# Altium integrated library TI Amplifiers and Linear Instrumentation Amplifier.IntLib: 274 symbols (part 7 of 10)
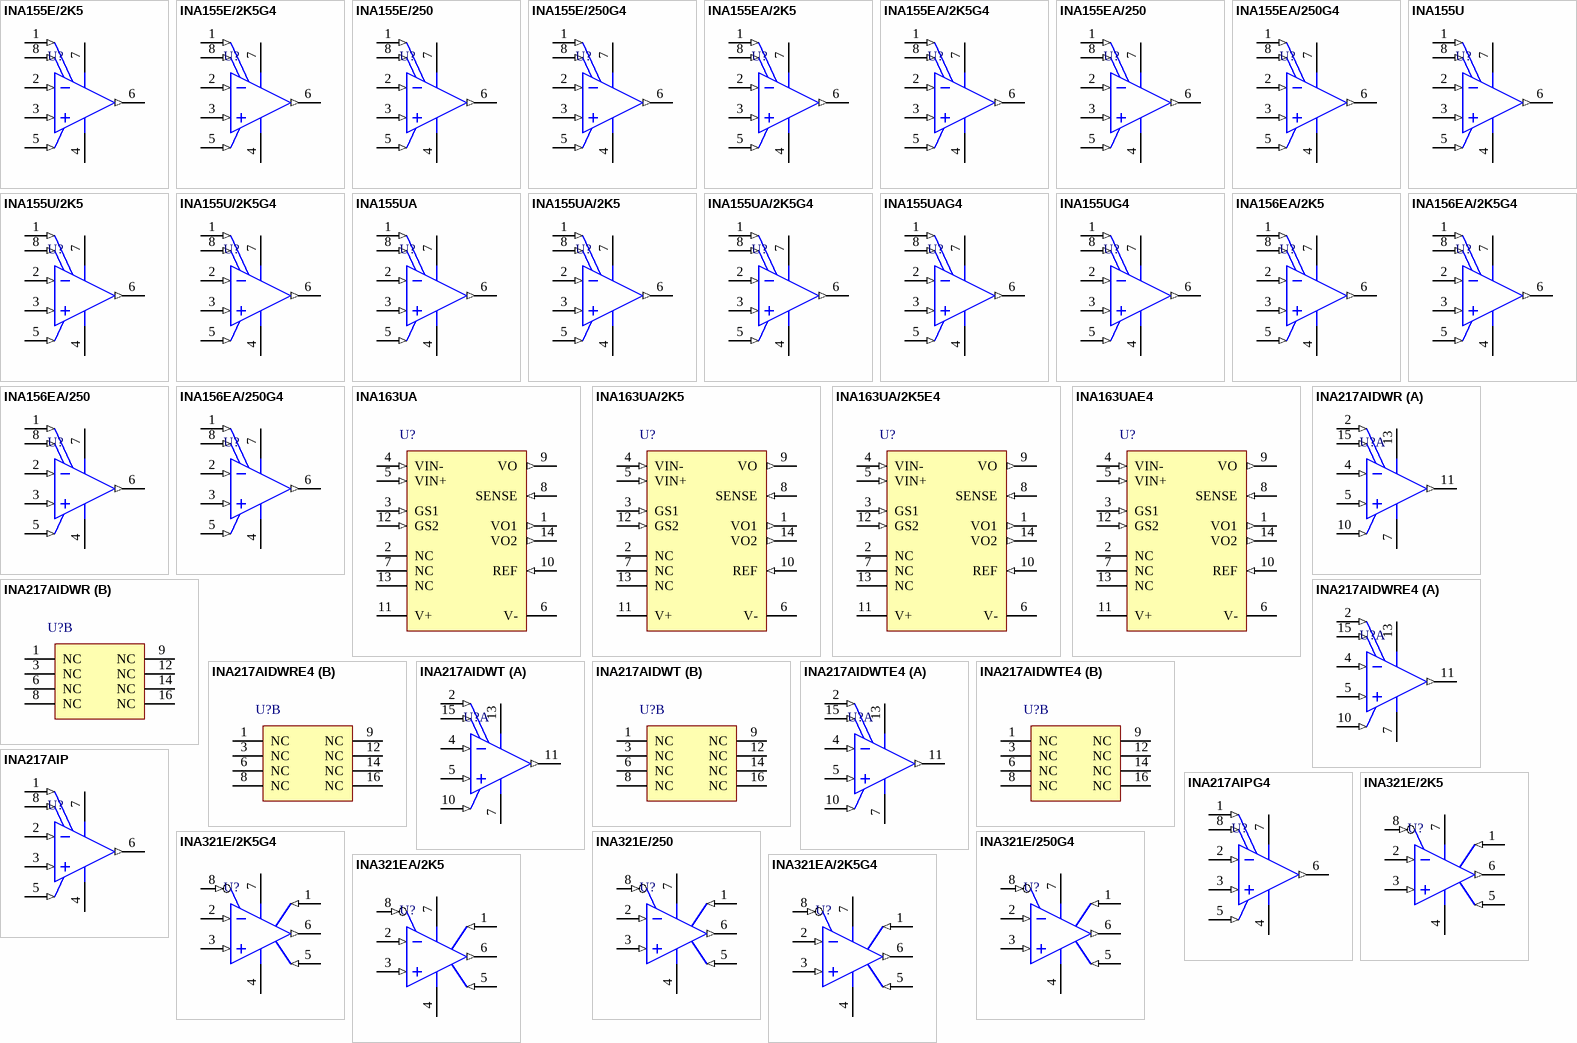
[diagram p14: symbols INA155E/2K5 to INA321EA/2K5G4]

## INA155U
designator U?
Single-Supply, Rail-to-Rail Output, CMOS Instrumentation Amplifier, -60 to 150 degC, 8-pin SOIC (D8), Green (RoHS & no Sb/Br); Manufacturer: Texas Instruments; PartNumber: INA155U; CMRR(Min)(dB): 92; Gain(V/V): 10, 50; Input Bias Current (+/-)(Max)(nA): 0.01; Input Offset (+/-)(Max)(uV): 1000; Noise at 1kHz(Typ)(nV/rt(Hz)): 40; Non-Linearity (+/-)(Max)(%): 0.015; Number of Channels: 1; Quiescent Current (+/-)(Typ)(mA): 1.7; SubFamily: Single Supply; Vs(Max)(V): 5.5; Vs(Min)(V): 2.7; DatasheetVersion: SBOS114; PackageVersion: 4040047-3/M, 06/2011; PackageReference: D8; PackageDescription: 8-Pin Plastic Small Outline, Body 4.9 x 3.9 mm, Pitch 1.27 mm; Supplier 1: Digi-Key; Supplier Part Number 1: INA155U-ND; Supplier 2: Newark; Supplier Part Number 2: 74C9818; Supplier 3: Mouser; Supplier Part Number 3: 595-INA155U; Eco-Plan: Green (RoHS & no Sb/Br); Mounting Technology: Surface Mount; Code_JEDEC: MS-012; ComponentLink1Description: Manufacturer URL; ComponentLink1URL: http://www.ti.com/; ComponentLink2Description: Datasheet; ComponentLink2URL: http://www.ti.com/general/docs/lit/getliterature.tsp?genericPartNumber=INA155&fileType=pdf; ComponentLink3Description: Package Specification; ComponentLink3URL: http://www.ti.com/litv/pdf/msoi002j
footprint TI-D8_N (SOIC, 8-Leads, Body 5x4mm, Pitch 1.27mm, IPC Medium Density)
footprint TI-D8_L (SOIC, 8-Leads, Body 5x4mm, Pitch 1.27mm, IPC High Density)
footprint TI-D8_M (SOIC, 8-Leads, Body 5x4mm, Pitch 1.27mm, IPC Low Density)
pins: 1 RG (in), 2 VIN- (in), 3 VIN+ (in), 4 V- (power), 5 REF (in), 6 VOUT (out), 7 V+ (power), 8 RG (in)

## INA155U/2K5
designator U?
Single-Supply, Rail-to-Rail Output, CMOS Instrumentation Amplifier, -60 to 150 degC, 8-pin SOIC (D8), Green (RoHS & no Sb/Br); Manufacturer: Texas Instruments; PartNumber: INA155U/2K5; CMRR(Min)(dB): 92; Gain(V/V): 10, 50; Input Bias Current (+/-)(Max)(nA): 0.01; Input Offset (+/-)(Max)(uV): 1000; Noise at 1kHz(Typ)(nV/rt(Hz)): 40; Non-Linearity (+/-)(Max)(%): 0.015; Number of Channels: 1; Quiescent Current (+/-)(Typ)(mA): 1.7; SubFamily: Single Supply; Vs(Max)(V): 5.5; Vs(Min)(V): 2.7; DatasheetVersion: SBOS114; PackageVersion: 4040047-3/M, 06/2011; PackageReference: D8; PackageDescription: 8-Pin Plastic Small Outline, Body 4.9 x 3.9 mm, Pitch 1.27 mm; Supplier 1: Digi-Key; Supplier Part Number 1: INA155U/2K5-ND; Supplier 2: Mouser; Supplier Part Number 2: 595-INA155U/2K5; Eco-Plan: Green (RoHS & no Sb/Br); Mounting Technology: Surface Mount; Code_JEDEC: MS-012; ComponentLink1Description: Manufacturer URL; ComponentLink1URL: http://www.ti.com/; ComponentLink2Description: Datasheet; ComponentLink2URL: http://www.ti.com/general/docs/lit/getliterature.tsp?genericPartNumber=INA155&fileType=pdf; ComponentLink3Description: Package Specification; ComponentLink3URL: http://www.ti.com/litv/pdf/msoi002j
footprint TI-D8_N (SOIC, 8-Leads, Body 5x4mm, Pitch 1.27mm, IPC Medium Density)
footprint TI-D8_L (SOIC, 8-Leads, Body 5x4mm, Pitch 1.27mm, IPC High Density)
footprint TI-D8_M (SOIC, 8-Leads, Body 5x4mm, Pitch 1.27mm, IPC Low Density)
pins: 1 RG (in), 2 VIN- (in), 3 VIN+ (in), 4 V- (power), 5 REF (in), 6 VOUT (out), 7 V+ (power), 8 RG (in)

## INA155U/2K5G4
designator U?
Single-Supply, Rail-to-Rail Output, CMOS Instrumentation Amplifier, -60 to 150 degC, 8-pin SOIC (D8), Green (RoHS & no Sb/Br); Manufacturer: Texas Instruments; PartNumber: INA155U/2K5G4; CMRR(Min)(dB): 92; Gain(V/V): 10, 50; Input Bias Current (+/-)(Max)(nA): 0.01; Input Offset (+/-)(Max)(uV): 1000; Noise at 1kHz(Typ)(nV/rt(Hz)): 40; Non-Linearity (+/-)(Max)(%): 0.015; Number of Channels: 1; Quiescent Current (+/-)(Typ)(mA): 1.7; SubFamily: Single Supply; Vs(Max)(V): 5.5; Vs(Min)(V): 2.7; DatasheetVersion: SBOS114; PackageVersion: 4040047-3/M, 06/2011; PackageReference: D8; PackageDescription: 8-Pin Plastic Small Outline, Body 4.9 x 3.9 mm, Pitch 1.27 mm; Supplier 1: Digi-Key; Supplier Part Number 1: INA155U/2K5G4-ND; Supplier 2: Mouser; Supplier Part Number 2: 595-INA155U/2K5G4; Eco-Plan: Green (RoHS & no Sb/Br); Mounting Technology: Surface Mount; Code_JEDEC: MS-012; ComponentLink1Description: Manufacturer URL; ComponentLink1URL: http://www.ti.com/; ComponentLink2Description: Datasheet; ComponentLink2URL: http://www.ti.com/general/docs/lit/getliterature.tsp?genericPartNumber=INA155&fileType=pdf; ComponentLink3Description: Package Specification; ComponentLink3URL: http://www.ti.com/litv/pdf/msoi002j
footprint TI-D8_N (SOIC, 8-Leads, Body 5x4mm, Pitch 1.27mm, IPC Medium Density)
footprint TI-D8_L (SOIC, 8-Leads, Body 5x4mm, Pitch 1.27mm, IPC High Density)
footprint TI-D8_M (SOIC, 8-Leads, Body 5x4mm, Pitch 1.27mm, IPC Low Density)
pins: 1 RG (in), 2 VIN- (in), 3 VIN+ (in), 4 V- (power), 5 REF (in), 6 VOUT (out), 7 V+ (power), 8 RG (in)

## INA155UA
designator U?
Single-Supply, Rail-to-Rail Output, CMOS Instrumentation Amplifier, -60 to 150 degC, 8-pin SOIC (D8), Green (RoHS & no Sb/Br); Manufacturer: Texas Instruments; PartNumber: INA155UA; CMRR(Min)(dB): 80; Gain(V/V): 10, 50; Input Bias Current (+/-)(Max)(nA): 0.01; Input Offset (+/-)(Max)(uV): 1000; Noise at 1kHz(Typ)(nV/rt(Hz)): 40; Non-Linearity (+/-)(Max)(%): 0.015; Number of Channels: 1; Quiescent Current (+/-)(Typ)(mA): 1.7; SubFamily: Single Supply; Vs(Max)(V): 5.5; Vs(Min)(V): 2.7; DatasheetVersion: SBOS114; PackageVersion: 4040047-3/M, 06/2011; PackageReference: D8; PackageDescription: 8-Pin Plastic Small Outline, Body 4.9 x 3.9 mm, Pitch 1.27 mm; Supplier 1: Digi-Key; Supplier Part Number 1: INA155UA-ND; Supplier 2: Farnell; Supplier Part Number 2: 1106188; Supplier 3: Newark; Supplier Part Number 3: 35C0500; Supplier 4: Mouser; Supplier Part Number 4: 595-INA155UA; Eco-Plan: Green (RoHS & no Sb/Br); Mounting Technology: Surface Mount; Code_JEDEC: MS-012; ComponentLink1Description: Manufacturer URL; ComponentLink1URL: http://www.ti.com/; ComponentLink2Description: Datasheet; ComponentLink2URL: http://www.ti.com/general/docs/lit/getliterature.tsp?genericPartNumber=INA155&fileType=pdf; ComponentLink3Description: Package Specification; ComponentLink3URL: http://www.ti.com/litv/pdf/msoi002j
footprint TI-D8_N (SOIC, 8-Leads, Body 5x4mm, Pitch 1.27mm, IPC Medium Density)
footprint TI-D8_L (SOIC, 8-Leads, Body 5x4mm, Pitch 1.27mm, IPC High Density)
footprint TI-D8_M (SOIC, 8-Leads, Body 5x4mm, Pitch 1.27mm, IPC Low Density)
pins: 1 RG (in), 2 VIN- (in), 3 VIN+ (in), 4 V- (power), 5 REF (in), 6 VOUT (out), 7 V+ (power), 8 RG (in)

## INA155UA/2K5
designator U?
Single-Supply, Rail-to-Rail Output, CMOS Instrumentation Amplifier, -60 to 150 degC, 8-pin SOIC (D8), Green (RoHS & no Sb/Br); Manufacturer: Texas Instruments; PartNumber: INA155UA/2K5; CMRR(Min)(dB): 80; Gain(V/V): 10, 50; Input Bias Current (+/-)(Max)(nA): 0.01; Input Offset (+/-)(Max)(uV): 1000; Noise at 1kHz(Typ)(nV/rt(Hz)): 40; Non-Linearity (+/-)(Max)(%): 0.015; Number of Channels: 1; Quiescent Current (+/-)(Typ)(mA): 1.7; SubFamily: Single Supply; Vs(Max)(V): 5.5; Vs(Min)(V): 2.7; DatasheetVersion: SBOS114; PackageVersion: 4040047-3/M, 06/2011; PackageReference: D8; PackageDescription: 8-Pin Plastic Small Outline, Body 4.9 x 3.9 mm, Pitch 1.27 mm; Supplier 1: Digi-Key; Supplier Part Number 1: INA155UA/2K5-ND; Supplier 2: Newark; Supplier Part Number 2: 74C9820; Supplier 3: Mouser; Supplier Part Number 3: 595-INA155UA/2K5; Eco-Plan: Green (RoHS & no Sb/Br); Mounting Technology: Surface Mount; Code_JEDEC: MS-012; ComponentLink1Description: Manufacturer URL; ComponentLink1URL: http://www.ti.com/; ComponentLink2Description: Datasheet; ComponentLink2URL: http://www.ti.com/general/docs/lit/getliterature.tsp?genericPartNumber=INA155&fileType=pdf; ComponentLink3Description: Package Specification; ComponentLink3URL: http://www.ti.com/litv/pdf/msoi002j
footprint TI-D8_N (SOIC, 8-Leads, Body 5x4mm, Pitch 1.27mm, IPC Medium Density)
footprint TI-D8_L (SOIC, 8-Leads, Body 5x4mm, Pitch 1.27mm, IPC High Density)
footprint TI-D8_M (SOIC, 8-Leads, Body 5x4mm, Pitch 1.27mm, IPC Low Density)
pins: 1 RG (in), 2 VIN- (in), 3 VIN+ (in), 4 V- (power), 5 REF (in), 6 VOUT (out), 7 V+ (power), 8 RG (in)

## INA155UA/2K5G4
designator U?
Single-Supply, Rail-to-Rail Output, CMOS Instrumentation Amplifier, -60 to 150 degC, 8-pin SOIC (D8), Green (RoHS & no Sb/Br); Manufacturer: Texas Instruments; PartNumber: INA155UA/2K5G4; CMRR(Min)(dB): 80; Gain(V/V): 10, 50; Input Bias Current (+/-)(Max)(nA): 0.01; Input Offset (+/-)(Max)(uV): 1000; Noise at 1kHz(Typ)(nV/rt(Hz)): 40; Non-Linearity (+/-)(Max)(%): 0.015; Number of Channels: 1; Quiescent Current (+/-)(Typ)(mA): 1.7; SubFamily: Single Supply; Vs(Max)(V): 5.5; Vs(Min)(V): 2.7; DatasheetVersion: SBOS114; PackageVersion: 4040047-3/M, 06/2011; PackageReference: D8; PackageDescription: 8-Pin Plastic Small Outline, Body 4.9 x 3.9 mm, Pitch 1.27 mm; Supplier 1: Digi-Key; Supplier Part Number 1: INA155UA/2K5G4-ND; Supplier 2: Mouser; Supplier Part Number 2: 595-INA155UA/2K5G4; Eco-Plan: Green (RoHS & no Sb/Br); Mounting Technology: Surface Mount; Code_JEDEC: MS-012; ComponentLink1Description: Manufacturer URL; ComponentLink1URL: http://www.ti.com/; ComponentLink2Description: Datasheet; ComponentLink2URL: http://www.ti.com/general/docs/lit/getliterature.tsp?genericPartNumber=INA155&fileType=pdf; ComponentLink3Description: Package Specification; ComponentLink3URL: http://www.ti.com/litv/pdf/msoi002j
footprint TI-D8_N (SOIC, 8-Leads, Body 5x4mm, Pitch 1.27mm, IPC Medium Density)
footprint TI-D8_L (SOIC, 8-Leads, Body 5x4mm, Pitch 1.27mm, IPC High Density)
footprint TI-D8_M (SOIC, 8-Leads, Body 5x4mm, Pitch 1.27mm, IPC Low Density)
pins: 1 RG (in), 2 VIN- (in), 3 VIN+ (in), 4 V- (power), 5 REF (in), 6 VOUT (out), 7 V+ (power), 8 RG (in)

## INA155UAG4
designator U?
Single-Supply, Rail-to-Rail Output, CMOS Instrumentation Amplifier, -60 to 150 degC, 8-pin SOIC (D8), Green (RoHS & no Sb/Br); Manufacturer: Texas Instruments; PartNumber: INA155UAG4; CMRR(Min)(dB): 80; Gain(V/V): 10, 50; Input Bias Current (+/-)(Max)(nA): 0.01; Input Offset (+/-)(Max)(uV): 1000; Noise at 1kHz(Typ)(nV/rt(Hz)): 40; Non-Linearity (+/-)(Max)(%): 0.015; Number of Channels: 1; Quiescent Current (+/-)(Typ)(mA): 1.7; SubFamily: Single Supply; Vs(Max)(V): 5.5; Vs(Min)(V): 2.7; DatasheetVersion: SBOS114; PackageVersion: 4040047-3/M, 06/2011; PackageReference: D8; PackageDescription: 8-Pin Plastic Small Outline, Body 4.9 x 3.9 mm, Pitch 1.27 mm; Supplier 1: Digi-Key; Supplier Part Number 1: INA155UAG4-ND; Supplier 2: Newark; Supplier Part Number 2: 67K8008; Supplier 3: Mouser; Supplier Part Number 3: 595-INA155UAG4; Eco-Plan: Green (RoHS & no Sb/Br); Mounting Technology: Surface Mount; Code_JEDEC: MS-012; ComponentLink1Description: Manufacturer URL; ComponentLink1URL: http://www.ti.com/; ComponentLink2Description: Datasheet; ComponentLink2URL: http://www.ti.com/general/docs/lit/getliterature.tsp?genericPartNumber=INA155&fileType=pdf; ComponentLink3Description: Package Specification; ComponentLink3URL: http://www.ti.com/litv/pdf/msoi002j
footprint TI-D8_N (SOIC, 8-Leads, Body 5x4mm, Pitch 1.27mm, IPC Medium Density)
footprint TI-D8_L (SOIC, 8-Leads, Body 5x4mm, Pitch 1.27mm, IPC High Density)
footprint TI-D8_M (SOIC, 8-Leads, Body 5x4mm, Pitch 1.27mm, IPC Low Density)
pins: 1 RG (in), 2 VIN- (in), 3 VIN+ (in), 4 V- (power), 5 REF (in), 6 VOUT (out), 7 V+ (power), 8 RG (in)

## INA155UG4
designator U?
Single-Supply, Rail-to-Rail Output, CMOS Instrumentation Amplifier, -60 to 150 degC, 8-pin SOIC (D8), Green (RoHS & no Sb/Br); Manufacturer: Texas Instruments; PartNumber: INA155UG4; CMRR(Min)(dB): 92; Gain(V/V): 10, 50; Input Bias Current (+/-)(Max)(nA): 0.01; Input Offset (+/-)(Max)(uV): 1000; Noise at 1kHz(Typ)(nV/rt(Hz)): 40; Non-Linearity (+/-)(Max)(%): 0.015; Number of Channels: 1; Quiescent Current (+/-)(Typ)(mA): 1.7; SubFamily: Single Supply; Vs(Max)(V): 5.5; Vs(Min)(V): 2.7; DatasheetVersion: SBOS114; PackageVersion: 4040047-3/M, 06/2011; PackageReference: D8; PackageDescription: 8-Pin Plastic Small Outline, Body 4.9 x 3.9 mm, Pitch 1.27 mm; Supplier 1: Digi-Key; Supplier Part Number 1: INA155UG4-ND; Supplier 2: Farnell; Supplier Part Number 2: 1206905; Supplier 3: Newark; Supplier Part Number 3: 97K1929; Supplier 4: Newark; Supplier Part Number 4: 53K9311; Supplier 5: Mouser; Supplier Part Number 5: 595-INA155UG4; Eco-Plan: Green (RoHS & no Sb/Br); Mounting Technology: Surface Mount; Code_JEDEC: MS-012; ComponentLink1Description: Manufacturer URL; ComponentLink1URL: http://www.ti.com/; ComponentLink2Description: Datasheet; ComponentLink2URL: http://www.ti.com/general/docs/lit/getliterature.tsp?genericPartNumber=INA155&fileType=pdf; ComponentLink3Description: Package Specification; ComponentLink3URL: http://www.ti.com/litv/pdf/msoi002j
footprint TI-D8_N (SOIC, 8-Leads, Body 5x4mm, Pitch 1.27mm, IPC Medium Density)
footprint TI-D8_L (SOIC, 8-Leads, Body 5x4mm, Pitch 1.27mm, IPC High Density)
footprint TI-D8_M (SOIC, 8-Leads, Body 5x4mm, Pitch 1.27mm, IPC Low Density)
pins: 1 RG (in), 2 VIN- (in), 3 VIN+ (in), 4 V- (power), 5 REF (in), 6 VOUT (out), 7 V+ (power), 8 RG (in)

## INA156EA/2K5
designator U?
Single-Supply, Rail-to-Rail Output, CMOS Instrumentation Amplifier, -65 to 150 degC, 8-pin SOP (DGK8), Green (RoHS & no Sb/Br); Manufacturer: Texas Instruments; PartNumber: INA156EA/2K5; CMRR(Min)(dB): 66; Gain(V/V): 10, 50; Input Bias Current (+/-)(Max)(nA): 0.01; Input Offset (+/-)(Max)(uV): 8000; Noise at 1kHz(Typ)(nV/rt(Hz)): 40; Non-Linearity (+/-)(Max)(%): 0.015; Number of Channels: 1; Quiescent Current (+/-)(Typ)(mA): 1.8; SubFamily: Single Supply; Vs(Max)(V): 5.5; Vs(Min)(V): 2.7; DatasheetVersion: SBOS119; PackageVersion: 4073329/E, 05/2006; PackageReference: DGK8; PackageDescription: 8-Pin Thin Small Outline, Body 3 x 3 mm, Pitch 0.65 mm; Supplier 1: Digi-Key; Supplier Part Number 1: INA156EA/2K5-ND; Supplier 2: Mouser; Supplier Part Number 2: 595-INA156EA/2K5; Eco-Plan: Green (RoHS & no Sb/Br); Mounting Technology: Surface Mount; Code_JEDEC: MO-187; ComponentLink1Description: Manufacturer URL; ComponentLink1URL: http://www.ti.com/; ComponentLink2Description: Datasheet; ComponentLink2URL: http://www.ti.com/general/docs/lit/getliterature.tsp?genericPartNumber=INA156&fileType=pdf; ComponentLink3Description: Package Specification; ComponentLink3URL: http://www.ti.com/litv/pdf/mpds028d
footprint TI-DGK8_N (SOP, 8-Leads, Body 3.1x3.1mm, Pitch 0.65mm, IPC Medium Density)
footprint TI-DGK8_L (SOP, 8-Leads, Body 3.1x3.1mm, Pitch 0.65mm, IPC High Density)
footprint TI-DGK8_M (SOP, 8-Leads, Body 3.1x3.1mm, Pitch 0.65mm, IPC Low Density)
pins: 1 RG (in), 2 VIN- (in), 3 VIN+ (in), 4 V- (power), 5 REF (in), 6 VOUT (out), 7 V+ (power), 8 RG (in)

## INA156EA/2K5G4
designator U?
Single-Supply, Rail-to-Rail Output, CMOS Instrumentation Amplifier, -65 to 150 degC, 8-pin SOP (DGK8), Green (RoHS & no Sb/Br); Manufacturer: Texas Instruments; PartNumber: INA156EA/2K5G4; CMRR(Min)(dB): 66; Gain(V/V): 10, 50; Input Bias Current (+/-)(Max)(nA): 0.01; Input Offset (+/-)(Max)(uV): 8000; Noise at 1kHz(Typ)(nV/rt(Hz)): 40; Non-Linearity (+/-)(Max)(%): 0.015; Number of Channels: 1; Quiescent Current (+/-)(Typ)(mA): 1.8; SubFamily: Single Supply; Vs(Max)(V): 5.5; Vs(Min)(V): 2.7; DatasheetVersion: SBOS119; PackageVersion: 4073329/E, 05/2006; PackageReference: DGK8; PackageDescription: 8-Pin Thin Small Outline, Body 3 x 3 mm, Pitch 0.65 mm; Supplier 1: Digi-Key; Supplier Part Number 1: INA156EA/2K5G4-ND; Supplier 2: Mouser; Supplier Part Number 2: 595-INA156EA/2K5G4; Eco-Plan: Green (RoHS & no Sb/Br); Mounting Technology: Surface Mount; Code_JEDEC: MO-187; ComponentLink1Description: Manufacturer URL; ComponentLink1URL: http://www.ti.com/; ComponentLink2Description: Datasheet; ComponentLink2URL: http://www.ti.com/general/docs/lit/getliterature.tsp?genericPartNumber=INA156&fileType=pdf; ComponentLink3Description: Package Specification; ComponentLink3URL: http://www.ti.com/litv/pdf/mpds028d
footprint TI-DGK8_N (SOP, 8-Leads, Body 3.1x3.1mm, Pitch 0.65mm, IPC Medium Density)
footprint TI-DGK8_L (SOP, 8-Leads, Body 3.1x3.1mm, Pitch 0.65mm, IPC High Density)
footprint TI-DGK8_M (SOP, 8-Leads, Body 3.1x3.1mm, Pitch 0.65mm, IPC Low Density)
pins: 1 RG (in), 2 VIN- (in), 3 VIN+ (in), 4 V- (power), 5 REF (in), 6 VOUT (out), 7 V+ (power), 8 RG (in)

## INA156EA/250
designator U?
Single-Supply, Rail-to-Rail Output, CMOS Instrumentation Amplifier, -65 to 150 degC, 8-pin SOP (DGK8), Green (RoHS & no Sb/Br); Manufacturer: Texas Instruments; PartNumber: INA156EA/250; CMRR(Min)(dB): 66; Gain(V/V): 10, 50; Input Bias Current (+/-)(Max)(nA): 0.01; Input Offset (+/-)(Max)(uV): 8000; Noise at 1kHz(Typ)(nV/rt(Hz)): 40; Non-Linearity (+/-)(Max)(%): 0.015; Number of Channels: 1; Quiescent Current (+/-)(Typ)(mA): 1.8; SubFamily: Single Supply; Vs(Max)(V): 5.5; Vs(Min)(V): 2.7; DatasheetVersion: SBOS119; PackageVersion: 4073329/E, 05/2006; PackageReference: DGK8; PackageDescription: 8-Pin Thin Small Outline, Body 3 x 3 mm, Pitch 0.65 mm; Supplier 1: Digi-Key; Supplier Part Number 1: INA156EATR-ND; Supplier 2: Digi-Key; Supplier Part Number 2: INA156EACT-ND; Supplier 3: Digi-Key; Supplier Part Number 3: INA156EADKR-ND; Supplier 4: Farnell; Supplier Part Number 4: 1754833; Supplier 5: Farnell; Supplier Part Number 5: 1575433; Supplier 6: Newark; Supplier Part Number 6: 74C9822; Supplier 7: Mouser; Supplier Part Number 7: 595-INA156EA/250; Eco-Plan: Green (RoHS & no Sb/Br); Mounting Technology: Surface Mount; Code_JEDEC: MO-187; ComponentLink1Description: Manufacturer URL; ComponentLink1URL: http://www.ti.com/; ComponentLink2Description: Datasheet; ComponentLink2URL: http://www.ti.com/general/docs/lit/getliterature.tsp?genericPartNumber=INA156&fileType=pdf; ComponentLink3Description: Package Specification; ComponentLink3URL: http://www.ti.com/litv/pdf/mpds028d
footprint TI-DGK8_N (SOP, 8-Leads, Body 3.1x3.1mm, Pitch 0.65mm, IPC Medium Density)
footprint TI-DGK8_L (SOP, 8-Leads, Body 3.1x3.1mm, Pitch 0.65mm, IPC High Density)
footprint TI-DGK8_M (SOP, 8-Leads, Body 3.1x3.1mm, Pitch 0.65mm, IPC Low Density)
pins: 1 RG (in), 2 VIN- (in), 3 VIN+ (in), 4 V- (power), 5 REF (in), 6 VOUT (out), 7 V+ (power), 8 RG (in)

## INA156EA/250G4
designator U?
Single-Supply, Rail-to-Rail Output, CMOS Instrumentation Amplifier, -65 to 150 degC, 8-pin SOP (DGK8), Green (RoHS & no Sb/Br); Manufacturer: Texas Instruments; PartNumber: INA156EA/250G4; CMRR(Min)(dB): 66; Gain(V/V): 10, 50; Input Bias Current (+/-)(Max)(nA): 0.01; Input Offset (+/-)(Max)(uV): 8000; Noise at 1kHz(Typ)(nV/rt(Hz)): 40; Non-Linearity (+/-)(Max)(%): 0.015; Number of Channels: 1; Quiescent Current (+/-)(Typ)(mA): 1.8; SubFamily: Single Supply; Vs(Max)(V): 5.5; Vs(Min)(V): 2.7; DatasheetVersion: SBOS119; PackageVersion: 4073329/E, 05/2006; PackageReference: DGK8; PackageDescription: 8-Pin Thin Small Outline, Body 3 x 3 mm, Pitch 0.65 mm; Supplier 1: Digi-Key; Supplier Part Number 1: INA156EA/250G4-ND; Supplier 2: Mouser; Supplier Part Number 2: 595-INA156EA/250G4; Eco-Plan: Green (RoHS & no Sb/Br); Mounting Technology: Surface Mount; Code_JEDEC: MO-187; ComponentLink1Description: Manufacturer URL; ComponentLink1URL: http://www.ti.com/; ComponentLink2Description: Datasheet; ComponentLink2URL: http://www.ti.com/general/docs/lit/getliterature.tsp?genericPartNumber=INA156&fileType=pdf; ComponentLink3Description: Package Specification; ComponentLink3URL: http://www.ti.com/litv/pdf/mpds028d
footprint TI-DGK8_N (SOP, 8-Leads, Body 3.1x3.1mm, Pitch 0.65mm, IPC Medium Density)
footprint TI-DGK8_L (SOP, 8-Leads, Body 3.1x3.1mm, Pitch 0.65mm, IPC High Density)
footprint TI-DGK8_M (SOP, 8-Leads, Body 3.1x3.1mm, Pitch 0.65mm, IPC Low Density)
pins: 1 RG (in), 2 VIN- (in), 3 VIN+ (in), 4 V- (power), 5 REF (in), 6 VOUT (out), 7 V+ (power), 8 RG (in)

## INA163UA
designator U?
Low-Noise Low-Distortion Instrumentation Amplifier, -40 to 125 degC, 14-pin SOIC (D14), Green (RoHS & no Sb/Br); Manufacturer: Texas Instruments; PartNumber: INA163UA; CMRR(Min)(dB): 100; Gain(V/V): 1 to 10000; Input Bias Current (+/-)(Max)(nA): 12000; Input Offset (+/-)(Max)(uV): 250; Noise at 1kHz(Typ)(nV/rt(Hz)): 1; Non-Linearity (+/-)(Max)(%): 0.0006; Quiescent Current (+/-)(Typ)(mA): 10; SubFamily: Single Supply; Vs(Max)(V): 36; Vs(Min)(V): 9; DatasheetVersion: SBOS177D; PackageVersion: 4040047-5/M, 06/2011; PackageReference: D14; PackageDescription: 14-Pin Plastic Small Outline, Body 8.65 x 3.9 mm, Pitch 1.27 mm; Supplier 1: Digi-Key; Supplier Part Number 1: INA163UA-ND; Supplier 2: Newark; Supplier Part Number 2: 80K5909; Supplier 3: Mouser; Supplier Part Number 3: 595-INA163UA; Eco-Plan: Green (RoHS & no Sb/Br); Mounting Technology: Surface Mount; Code_JEDEC: MS-012; ComponentLink1Description: Manufacturer URL; ComponentLink1URL: http://www.ti.com/; ComponentLink2Description: Datasheet; ComponentLink2URL: http://www.ti.com/general/docs/lit/getliterature.tsp?genericPartNumber=INA163&fileType=pdf; ComponentLink3Description: Package Specification; ComponentLink3URL: http://www.ti.com/lit/ml/mpds177g/mpds177g.pdf
footprint TI-D14_N (SOIC, 14-Leads, Body 8.75x4mm, Pitch 1.27mm, IPC Medium Density)
footprint TI-D14_L (SOIC, 14-Leads, Body 8.75x4mm, Pitch 1.27mm, IPC High Density)
footprint TI-D14_M (SOIC, 14-Leads, Body 8.75x4mm, Pitch 1.27mm, IPC Low Density)
pins: 1 VO1 (out), 2 NC, 3 GS1 (in), 4 VIN- (in), 5 VIN+ (in), 6 V- (power), 7 NC, 8 SENSE (in), 9 VO (out), 10 REF (in), 11 V+ (power), 12 GS2 (in), 13 NC, 14 VO2 (out)

## INA163UA/2K5
designator U?
Low-Noise Low-Distortion Instrumentation Amplifier, -40 to 125 degC, 14-pin SOIC (D14), Green (RoHS & no Sb/Br); Manufacturer: Texas Instruments; PartNumber: INA163UA/2K5; CMRR(Min)(dB): 100; Gain(V/V): 1 to 10000; Input Bias Current (+/-)(Max)(nA): 12000; Input Offset (+/-)(Max)(uV): 250; Noise at 1kHz(Typ)(nV/rt(Hz)): 1; Non-Linearity (+/-)(Max)(%): 0.0006; Quiescent Current (+/-)(Typ)(mA): 10; SubFamily: Single Supply; Vs(Max)(V): 36; Vs(Min)(V): 9; DatasheetVersion: SBOS177D; PackageVersion: 4040047-5/M, 06/2011; PackageReference: D14; PackageDescription: 14-Pin Plastic Small Outline, Body 8.65 x 3.9 mm, Pitch 1.27 mm; Supplier 1: Digi-Key; Supplier Part Number 1: INA163UATR-ND; Supplier 2: Digi-Key; Supplier Part Number 2: INA163UACT-ND; Supplier 3: Digi-Key; Supplier Part Number 3: INA163UADKR-ND; Supplier 4: Newark; Supplier Part Number 4: 09J4688; Supplier 5: Mouser; Supplier Part Number 5: 595-INA163UA/2K5; Eco-Plan: Green (RoHS & no Sb/Br); Mounting Technology: Surface Mount; Code_JEDEC: MS-012; ComponentLink1Description: Manufacturer URL; ComponentLink1URL: http://www.ti.com/; ComponentLink2Description: Datasheet; ComponentLink2URL: http://www.ti.com/general/docs/lit/getliterature.tsp?genericPartNumber=INA163&fileType=pdf; ComponentLink3Description: Package Specification; ComponentLink3URL: http://www.ti.com/lit/ml/mpds177g/mpds177g.pdf
footprint TI-D14_N (SOIC, 14-Leads, Body 8.75x4mm, Pitch 1.27mm, IPC Medium Density)
footprint TI-D14_L (SOIC, 14-Leads, Body 8.75x4mm, Pitch 1.27mm, IPC High Density)
footprint TI-D14_M (SOIC, 14-Leads, Body 8.75x4mm, Pitch 1.27mm, IPC Low Density)
pins: 1 VO1 (out), 2 NC, 3 GS1 (in), 4 VIN- (in), 5 VIN+ (in), 6 V- (power), 7 NC, 8 SENSE (in), 9 VO (out), 10 REF (in), 11 V+ (power), 12 GS2 (in), 13 NC, 14 VO2 (out)

## INA163UA/2K5E4
designator U?
Low-Noise Low-Distortion Instrumentation Amplifier, -40 to 125 degC, 14-pin SOIC (D14), Green (RoHS & no Sb/Br); Manufacturer: Texas Instruments; PartNumber: INA163UA/2K5E4; CMRR(Min)(dB): 100; Gain(V/V): 1 to 10000; Input Bias Current (+/-)(Max)(nA): 12000; Input Offset (+/-)(Max)(uV): 250; Noise at 1kHz(Typ)(nV/rt(Hz)): 1; Non-Linearity (+/-)(Max)(%): 0.0006; Quiescent Current (+/-)(Typ)(mA): 10; SubFamily: Single Supply; Vs(Max)(V): 36; Vs(Min)(V): 9; DatasheetVersion: SBOS177D; PackageVersion: 4040047-5/M, 06/2011; PackageReference: D14; PackageDescription: 14-Pin Plastic Small Outline, Body 8.65 x 3.9 mm, Pitch 1.27 mm; Supplier 1: Digi-Key; Supplier Part Number 1: INA163UA/2K5E4-ND; Supplier 2: Mouser; Supplier Part Number 2: 595-INA163UA/2K5E4; Eco-Plan: Green (RoHS & no Sb/Br); Mounting Technology: Surface Mount; Code_JEDEC: MS-012; ComponentLink1Description: Manufacturer URL; ComponentLink1URL: http://www.ti.com/; ComponentLink2Description: Datasheet; ComponentLink2URL: http://www.ti.com/general/docs/lit/getliterature.tsp?genericPartNumber=INA163&fileType=pdf; ComponentLink3Description: Package Specification; ComponentLink3URL: http://www.ti.com/lit/ml/mpds177g/mpds177g.pdf
footprint TI-D14_N (SOIC, 14-Leads, Body 8.75x4mm, Pitch 1.27mm, IPC Medium Density)
footprint TI-D14_L (SOIC, 14-Leads, Body 8.75x4mm, Pitch 1.27mm, IPC High Density)
footprint TI-D14_M (SOIC, 14-Leads, Body 8.75x4mm, Pitch 1.27mm, IPC Low Density)
pins: 1 VO1 (out), 2 NC, 3 GS1 (in), 4 VIN- (in), 5 VIN+ (in), 6 V- (power), 7 NC, 8 SENSE (in), 9 VO (out), 10 REF (in), 11 V+ (power), 12 GS2 (in), 13 NC, 14 VO2 (out)

## INA163UAE4
designator U?
Low-Noise Low-Distortion Instrumentation Amplifier, -40 to 125 degC, 14-pin SOIC (D14), Green (RoHS & no Sb/Br); Manufacturer: Texas Instruments; PartNumber: INA163UAE4; CMRR(Min)(dB): 100; Gain(V/V): 1 to 10000; Input Bias Current (+/-)(Max)(nA): 12000; Input Offset (+/-)(Max)(uV): 250; Noise at 1kHz(Typ)(nV/rt(Hz)): 1; Non-Linearity (+/-)(Max)(%): 0.0006; Quiescent Current (+/-)(Typ)(mA): 10; SubFamily: Single Supply; Vs(Max)(V): 36; Vs(Min)(V): 9; DatasheetVersion: SBOS177D; PackageVersion: 4040047-5/M, 06/2011; PackageReference: D14; PackageDescription: 14-Pin Plastic Small Outline, Body 8.65 x 3.9 mm, Pitch 1.27 mm; Supplier 1: Digi-Key; Supplier Part Number 1: INA163UAE4-ND; Supplier 2: Farnell; Supplier Part Number 2: 1206906; Supplier 3: Newark; Supplier Part Number 3: 97K1930; Supplier 4: Newark; Supplier Part Number 4: 61K0036; Supplier 5: Mouser; Supplier Part Number 5: 595-INA163UAE4; Eco-Plan: Green (RoHS & no Sb/Br); Mounting Technology: Surface Mount; Code_JEDEC: MS-012; ComponentLink1Description: Manufacturer URL; ComponentLink1URL: http://www.ti.com/; ComponentLink2Description: Datasheet; ComponentLink2URL: http://www.ti.com/general/docs/lit/getliterature.tsp?genericPartNumber=INA163&fileType=pdf; ComponentLink3Description: Package Specification; ComponentLink3URL: http://www.ti.com/lit/ml/mpds177g/mpds177g.pdf
footprint TI-D14_N (SOIC, 14-Leads, Body 8.75x4mm, Pitch 1.27mm, IPC Medium Density)
footprint TI-D14_L (SOIC, 14-Leads, Body 8.75x4mm, Pitch 1.27mm, IPC High Density)
footprint TI-D14_M (SOIC, 14-Leads, Body 8.75x4mm, Pitch 1.27mm, IPC Low Density)
pins: 1 VO1 (out), 2 NC, 3 GS1 (in), 4 VIN- (in), 5 VIN+ (in), 6 V- (power), 7 NC, 8 SENSE (in), 9 VO (out), 10 REF (in), 11 V+ (power), 12 GS2 (in), 13 NC, 14 VO2 (out)

## INA217AIDWR
designator U?
Low Noise, Low-Distortion Instrumentation Amplifier, -40 to 125 degC, 16-pin SOIC (DW16), Green (RoHS & no Sb/Br); Manufacturer: Texas Instruments; PartNumber: INA217AIDWR; Bandwidth at G: 100(Min)(kHz)=800; CMRR(Min)(dB): 100; Gain(V/V): 1 to 10000; Input Bias Current (+/-)(Max)(nA): 12000; Input Offset (+/-)(Max)(uV): 250; Input Offset Drift (+/-)(Max)(uV/Degrees Celsius): 1; Noise at 1kHz(Typ)(nV/rt(Hz)): 1.3; Non-Linearity (+/-)(Max)(%): 0.0006; Output Offset (+/-)(Max)(uV): 5000/G; Quiescent Current (+/-)(Typ)(mA): 10; SubFamily: Single Supply; Vs(Max)(V): 36; Vs(Min)(V): 9; DatasheetVersion: SBOS247B; PackageVersion: 4040000-2/G, 01/2011; PackageReference: DW16; PackageDescription: 16-Pin Plastic Small Outline, Body 10.30 x 7.50 mm, Pitch 1.27 mm; Supplier 1: Digi-Key; Supplier Part Number 1: INA217AIDWR-ND; Supplier 2: Newark; Supplier Part Number 2: 02E2757; Supplier 3: Mouser; Supplier Part Number 3: 595-INA217AIDWR; Eco-Plan: Green (RoHS & no Sb/Br); Number of Channels: 1; Mounting Technology: Surface Mount; Code_JEDEC: MS-013; ComponentLink1Description: Manufacturer URL; ComponentLink1URL: http://www.ti.com/; ComponentLink2Description: Datasheet; ComponentLink2URL: http://www.ti.com/general/docs/lit/getliterature.tsp?genericPartNumber=INA217&fileType=pdf; ComponentLink3Description: Package Specification; ComponentLink3URL: http://www.ti.com/litv/pdf/msoi003g
footprint TI-DW16_N (SOIC, 16-Leads, Body 10.5x7.6mm, Pitch 1.27mm, IPC Medium Density)
footprint TI-DW16_L (SOIC, 16-Leads, Body 10.5x7.6mm, Pitch 1.27mm, IPC High Density)
footprint TI-DW16_M (SOIC, 16-Leads, Body 10.5x7.6mm, Pitch 1.27mm, IPC Low Density)
part A pins: 2 RG1 (in), 4 VIN- (in), 5 VIN+ (in), 7 V- (power), 10 REF (in), 11 VOUT (out), 13 V+ (power), 15 RG2 (in)
part B pins: 1 NC, 3 NC, 6 NC, 8 NC, 9 NC, 12 NC, 14 NC, 16 NC

## INA217AIDWRE4
designator U?
Low Noise, Low-Distortion Instrumentation Amplifier, -40 to 125 degC, 16-pin SOIC (DW16), Green (RoHS & no Sb/Br); Manufacturer: Texas Instruments; PartNumber: INA217AIDWRE4; Bandwidth at G: 100(Min)(kHz)=800; CMRR(Min)(dB): 100; Gain(V/V): 1 to 10000; Input Bias Current (+/-)(Max)(nA): 12000; Input Offset (+/-)(Max)(uV): 250; Input Offset Drift (+/-)(Max)(uV/Degrees Celsius): 1; Noise at 1kHz(Typ)(nV/rt(Hz)): 1.3; Non-Linearity (+/-)(Max)(%): 0.0006; Output Offset (+/-)(Max)(uV): 5000/G; Quiescent Current (+/-)(Typ)(mA): 10; SubFamily: Single Supply; Vs(Max)(V): 36; Vs(Min)(V): 9; DatasheetVersion: SBOS247B; PackageVersion: 4040000-2/G, 01/2011; PackageReference: DW16; PackageDescription: 16-Pin Plastic Small Outline, Body 10.30 x 7.50 mm, Pitch 1.27 mm; Supplier 1: Digi-Key; Supplier Part Number 1: INA217AIDWRE4-ND; Supplier 2: Newark; Supplier Part Number 2: 28M6101; Supplier 3: Mouser; Supplier Part Number 3: 595-INA217AIDWRE4; Eco-Plan: Green (RoHS & no Sb/Br); Number of Channels: 1; Mounting Technology: Surface Mount; Code_JEDEC: MS-013; ComponentLink1Description: Manufacturer URL; ComponentLink1URL: http://www.ti.com/; ComponentLink2Description: Datasheet; ComponentLink2URL: http://www.ti.com/general/docs/lit/getliterature.tsp?genericPartNumber=INA217&fileType=pdf; ComponentLink3Description: Package Specification; ComponentLink3URL: http://www.ti.com/litv/pdf/msoi003g
footprint TI-DW16_N (SOIC, 16-Leads, Body 10.5x7.6mm, Pitch 1.27mm, IPC Medium Density)
footprint TI-DW16_L (SOIC, 16-Leads, Body 10.5x7.6mm, Pitch 1.27mm, IPC High Density)
footprint TI-DW16_M (SOIC, 16-Leads, Body 10.5x7.6mm, Pitch 1.27mm, IPC Low Density)
part A pins: 2 RG1 (in), 4 VIN- (in), 5 VIN+ (in), 7 V- (power), 10 REF (in), 11 VOUT (out), 13 V+ (power), 15 RG2 (in)
part B pins: 1 NC, 3 NC, 6 NC, 8 NC, 9 NC, 12 NC, 14 NC, 16 NC

## INA217AIDWT
designator U?
Low Noise, Low-Distortion Instrumentation Amplifier, -40 to 125 degC, 16-pin SOIC (DW16), Green (RoHS & no Sb/Br); Manufacturer: Texas Instruments; PartNumber: INA217AIDWT; Bandwidth at G: 100(Min)(kHz)=800; CMRR(Min)(dB): 100; Gain(V/V): 1 to 10000; Input Bias Current (+/-)(Max)(nA): 12000; Input Offset (+/-)(Max)(uV): 250; Input Offset Drift (+/-)(Max)(uV/Degrees Celsius): 1; Noise at 1kHz(Typ)(nV/rt(Hz)): 1.3; Non-Linearity (+/-)(Max)(%): 0.0006; Output Offset (+/-)(Max)(uV): 5000/G; Quiescent Current (+/-)(Typ)(mA): 10; SubFamily: Single Supply; Vs(Max)(V): 36; Vs(Min)(V): 9; DatasheetVersion: SBOS247B; PackageVersion: 4040000-2/G, 01/2011; PackageReference: DW16; PackageDescription: 16-Pin Plastic Small Outline, Body 10.30 x 7.50 mm, Pitch 1.27 mm; Supplier 1: Digi-Key; Supplier Part Number 1: 296-13645-2-ND; Supplier 2: Digi-Key; Supplier Part Number 2: 296-13645-1-ND; Supplier 3: Digi-Key; Supplier Part Number 3: 296-13645-6-ND; Supplier 4: Farnell; Supplier Part Number 4: 1459470; Supplier 5: Newark; Supplier Part Number 5: 61M6803; Supplier 6: Mouser; Supplier Part Number 6: 595-INA217AIDWT; Eco-Plan: Green (RoHS & no Sb/Br); Number of Channels: 1; Mounting Technology: Surface Mount; Code_JEDEC: MS-013; ComponentLink1Description: Manufacturer URL; ComponentLink1URL: http://www.ti.com/; ComponentLink2Description: Datasheet; ComponentLink2URL: http://www.ti.com/general/docs/lit/getliterature.tsp?genericPartNumber=INA217&fileType=pdf; ComponentLink3Description: Package Specification; ComponentLink3URL: http://www.ti.com/litv/pdf/msoi003g
footprint TI-DW16_N (SOIC, 16-Leads, Body 10.5x7.6mm, Pitch 1.27mm, IPC Medium Density)
footprint TI-DW16_L (SOIC, 16-Leads, Body 10.5x7.6mm, Pitch 1.27mm, IPC High Density)
footprint TI-DW16_M (SOIC, 16-Leads, Body 10.5x7.6mm, Pitch 1.27mm, IPC Low Density)
part A pins: 2 RG1 (in), 4 VIN- (in), 5 VIN+ (in), 7 V- (power), 10 REF (in), 11 VOUT (out), 13 V+ (power), 15 RG2 (in)
part B pins: 1 NC, 3 NC, 6 NC, 8 NC, 9 NC, 12 NC, 14 NC, 16 NC

## INA217AIDWTE4
designator U?
Low Noise, Low-Distortion Instrumentation Amplifier, -40 to 125 degC, 16-pin SOIC (DW16), Green (RoHS & no Sb/Br); Manufacturer: Texas Instruments; PartNumber: INA217AIDWTE4; Bandwidth at G: 100(Min)(kHz)=800; CMRR(Min)(dB): 100; Gain(V/V): 1 to 10000; Input Bias Current (+/-)(Max)(nA): 12000; Input Offset (+/-)(Max)(uV): 250; Input Offset Drift (+/-)(Max)(uV/Degrees Celsius): 1; Noise at 1kHz(Typ)(nV/rt(Hz)): 1.3; Non-Linearity (+/-)(Max)(%): 0.0006; Output Offset (+/-)(Max)(uV): 5000/G; Quiescent Current (+/-)(Typ)(mA): 10; SubFamily: Single Supply; Vs(Max)(V): 36; Vs(Min)(V): 9; DatasheetVersion: SBOS247B; PackageVersion: 4040000-2/G, 01/2011; PackageReference: DW16; PackageDescription: 16-Pin Plastic Small Outline, Body 10.30 x 7.50 mm, Pitch 1.27 mm; Supplier 1: Digi-Key; Supplier Part Number 1: INA217AIDWTE4-ND; Supplier 2: Mouser; Supplier Part Number 2: 595-INA217AIDWTE4; Eco-Plan: Green (RoHS & no Sb/Br); Number of Channels: 1; Mounting Technology: Surface Mount; Code_JEDEC: MS-013; ComponentLink1Description: Manufacturer URL; ComponentLink1URL: http://www.ti.com/; ComponentLink2Description: Datasheet; ComponentLink2URL: http://www.ti.com/general/docs/lit/getliterature.tsp?genericPartNumber=INA217&fileType=pdf; ComponentLink3Description: Package Specification; ComponentLink3URL: http://www.ti.com/litv/pdf/msoi003g
footprint TI-DW16_N (SOIC, 16-Leads, Body 10.5x7.6mm, Pitch 1.27mm, IPC Medium Density)
footprint TI-DW16_L (SOIC, 16-Leads, Body 10.5x7.6mm, Pitch 1.27mm, IPC High Density)
footprint TI-DW16_M (SOIC, 16-Leads, Body 10.5x7.6mm, Pitch 1.27mm, IPC Low Density)
part A pins: 2 RG1 (in), 4 VIN- (in), 5 VIN+ (in), 7 V- (power), 10 REF (in), 11 VOUT (out), 13 V+ (power), 15 RG2 (in)
part B pins: 1 NC, 3 NC, 6 NC, 8 NC, 9 NC, 12 NC, 14 NC, 16 NC

## INA217AIP
designator U?
Low Noise, Low-Distortion Instrumentation Amplifier, -40 to 125 degC, 8-pin DIP (P8), Green (RoHS & no Sb/Br); Manufacturer: Texas Instruments; PartNumber: INA217AIP; Bandwidth at G: 100(Min)(kHz)=800; CMRR(Min)(dB): 100; Gain(V/V): 1 to 10000; Input Bias Current (+/-)(Max)(nA): 12000; Input Offset (+/-)(Max)(uV): 250; Input Offset Drift (+/-)(Max)(uV/Degrees Celsius): 1; Noise at 1kHz(Typ)(nV/rt(Hz)): 1.3; Non-Linearity (+/-)(Max)(%): 0.0006; Output Offset (+/-)(Max)(uV): 5000/G; Quiescent Current (+/-)(Typ)(mA): 10; SubFamily: Single Supply; Vs(Max)(V): 36; Vs(Min)(V): 9; DatasheetVersion: SBOS247B; PackageVersion: 4040082/E, 04/2010; PackageReference: P8; PackageDescription: 8-Pin Plastic In-Line, Body 9.59 x 6.35 mm, Pitch 2.54 mm; Supplier 1: Digi-Key; Supplier Part Number 1: 296-13452-5-ND; Supplier 2: Farnell; Supplier Part Number 2: 1212423; Supplier 3: Newark; Supplier Part Number 3: 74C9859; Supplier 4: Mouser; Supplier Part Number 4: 595-INA217AIP; Eco-Plan: Green (RoHS & no Sb/Br); Number of Channels: 1; Mounting Technology: Through Hole; Code_JEDEC: MS-001; ComponentLink1Description: Manufacturer URL; ComponentLink1URL: http://www.ti.com/; ComponentLink2Description: Datasheet; ComponentLink2URL: http://www.ti.com/general/docs/lit/getliterature.tsp?genericPartNumber=INA217&fileType=pdf; ComponentLink3Description: Package Specification; ComponentLink3URL: http://www.ti.com/litv/pdf/mpdi001b
footprint TI-P8 (DIP, 8-Leads, Body 10.15x6.6mm, Pitch 2.54mm)
pins: 1 RG1 (in), 2 VIN- (in), 3 VIN+ (in), 4 V- (power), 5 REF (in), 6 VOUT (out), 7 V+ (power), 8 RG2 (in)

## INA217AIPG4
designator U?
Low Noise, Low-Distortion Instrumentation Amplifier, -40 to 125 degC, 8-pin DIP (P8), Green (RoHS & no Sb/Br); Manufacturer: Texas Instruments; PartNumber: INA217AIPG4; Bandwidth at G: 100(Min)(kHz)=800; CMRR(Min)(dB): 100; Gain(V/V): 1 to 10000; Input Bias Current (+/-)(Max)(nA): 12000; Input Offset (+/-)(Max)(uV): 250; Input Offset Drift (+/-)(Max)(uV/Degrees Celsius): 1; Noise at 1kHz(Typ)(nV/rt(Hz)): 1.3; Non-Linearity (+/-)(Max)(%): 0.0006; Output Offset (+/-)(Max)(uV): 5000/G; Quiescent Current (+/-)(Typ)(mA): 10; SubFamily: Single Supply; Vs(Max)(V): 36; Vs(Min)(V): 9; DatasheetVersion: SBOS247B; PackageVersion: 4040082/E, 04/2010; PackageReference: P8; PackageDescription: 8-Pin Plastic In-Line, Body 9.59 x 6.35 mm, Pitch 2.54 mm; Supplier 1: Digi-Key; Supplier Part Number 1: 296-36095-5-ND; Supplier 2: Newark; Supplier Part Number 2: 18M2399; Supplier 3: Mouser; Supplier Part Number 3: 595-INA217AIPG4; Eco-Plan: Green (RoHS & no Sb/Br); Number of Channels: 1; Mounting Technology: Through Hole; Code_JEDEC: MS-001; ComponentLink1Description: Manufacturer URL; ComponentLink1URL: http://www.ti.com/; ComponentLink2Description: Datasheet; ComponentLink2URL: http://www.ti.com/general/docs/lit/getliterature.tsp?genericPartNumber=INA217&fileType=pdf; ComponentLink3Description: Package Specification; ComponentLink3URL: http://www.ti.com/litv/pdf/mpdi001b
footprint TI-P8 (DIP, 8-Leads, Body 10.15x6.6mm, Pitch 2.54mm)
pins: 1 RG1 (in), 2 VIN- (in), 3 VIN+ (in), 4 V- (power), 5 REF (in), 6 VOUT (out), 7 V+ (power), 8 RG2 (in)

## INA321E/2K5
designator U?
Micropower Single-Supply CMOS Instrumentation Amplifier, -55 to 125 degC, 8-pin SOP (DGK8), Green (RoHS & no Sb/Br); Manufacturer: Texas Instruments; PartNumber: INA321E/2K5; Bandwidth at G: 100(Min)(kHz)=50; CMRR(Min)(dB): 90; Gain(V/V): 5 to 1000; Input Bias Current (+/-)(Max)(nA): 0.01; Input Offset (+/-)(Max)(uV): 500; Noise at 1kHz(Typ)(nV/rt(Hz)): 100; Number of Channels: 1; Quiescent Current (+/-)(Typ)(mA): 0.04; SubFamily: Single Supply; Vs(Max)(V): 5.5; Vs(Min)(V): 2.5; DatasheetVersion: SBOS168D; PackageVersion: 4073329/E, 05/2006; PackageReference: DGK8; PackageDescription: 8-Pin Thin Small Outline, Body 3 x 3 mm, Pitch 0.65 mm; Supplier 1: Digi-Key; Supplier Part Number 1: 296-14586-2-ND; Supplier 2: Digi-Key; Supplier Part Number 2: 296-14586-1-ND; Supplier 3: Digi-Key; Supplier Part Number 3: 296-14586-6-ND; Supplier 4: Newark; Supplier Part Number 4: 74C9868; Supplier 5: Mouser; Supplier Part Number 5: 595-INA321E/2K5; Eco-Plan: Green (RoHS & no Sb/Br); Non-Linearity (+/-)(Max)(%): 0.01; Mounting Technology: Surface Mount; Code_JEDEC: MO-187; ComponentLink1Description: Manufacturer URL; ComponentLink1URL: http://www.ti.com/; ComponentLink2Description: Datasheet; ComponentLink2URL: http://www.ti.com/general/docs/lit/getliterature.tsp?genericPartNumber=INA321&fileType=pdf; ComponentLink3Description: Package Specification; ComponentLink3URL: http://www.ti.com/litv/pdf/mpds028d
footprint TI-DGK8_N (SOP, 8-Leads, Body 3.1x3.1mm, Pitch 0.65mm, IPC Medium Density)
footprint TI-DGK8_L (SOP, 8-Leads, Body 3.1x3.1mm, Pitch 0.65mm, IPC High Density)
footprint TI-DGK8_M (SOP, 8-Leads, Body 3.1x3.1mm, Pitch 0.65mm, IPC Low Density)
pins: 1 RG (in), 2 VIN- (in), 3 VIN+ (in), 4 V- (power), 5 REF (in), 6 VOUT (out), 7 V+ (power), 8 SHUTDOWN (in)

## INA321E/2K5G4
designator U?
Micropower Single-Supply CMOS Instrumentation Amplifier, -55 to 125 degC, 8-pin SOP (DGK8), Green (RoHS & no Sb/Br); Manufacturer: Texas Instruments; PartNumber: INA321E/2K5G4; Bandwidth at G: 100(Min)(kHz)=50; CMRR(Min)(dB): 90; Gain(V/V): 5 to 1000; Input Bias Current (+/-)(Max)(nA): 0.01; Input Offset (+/-)(Max)(uV): 500; Noise at 1kHz(Typ)(nV/rt(Hz)): 100; Number of Channels: 1; Quiescent Current (+/-)(Typ)(mA): 0.04; SubFamily: Single Supply; Vs(Max)(V): 5.5; Vs(Min)(V): 2.5; DatasheetVersion: SBOS168D; PackageVersion: 4073329/E, 05/2006; PackageReference: DGK8; PackageDescription: 8-Pin Thin Small Outline, Body 3 x 3 mm, Pitch 0.65 mm; Supplier 1: Digi-Key; Supplier Part Number 1: INA321E/2K5G4-ND; Supplier 2: Mouser; Supplier Part Number 2: 595-INA321E/2K5G4; Eco-Plan: Green (RoHS & no Sb/Br); Non-Linearity (+/-)(Max)(%): 0.01; Mounting Technology: Surface Mount; Code_JEDEC: MO-187; ComponentLink1Description: Manufacturer URL; ComponentLink1URL: http://www.ti.com/; ComponentLink2Description: Datasheet; ComponentLink2URL: http://www.ti.com/general/docs/lit/getliterature.tsp?genericPartNumber=INA321&fileType=pdf; ComponentLink3Description: Package Specification; ComponentLink3URL: http://www.ti.com/litv/pdf/mpds028d
footprint TI-DGK8_N (SOP, 8-Leads, Body 3.1x3.1mm, Pitch 0.65mm, IPC Medium Density)
footprint TI-DGK8_L (SOP, 8-Leads, Body 3.1x3.1mm, Pitch 0.65mm, IPC High Density)
footprint TI-DGK8_M (SOP, 8-Leads, Body 3.1x3.1mm, Pitch 0.65mm, IPC Low Density)
pins: 1 RG (in), 2 VIN- (in), 3 VIN+ (in), 4 V- (power), 5 REF (in), 6 VOUT (out), 7 V+ (power), 8 SHUTDOWN (in)

## INA321E/250
designator U?
Micropower Single-Supply CMOS Instrumentation Amplifier, -55 to 125 degC, 8-pin SOP (DGK8), Green (RoHS & no Sb/Br); Manufacturer: Texas Instruments; PartNumber: INA321E/250; Bandwidth at G: 100(Min)(kHz)=50; CMRR(Min)(dB): 90; Gain(V/V): 5 to 1000; Input Bias Current (+/-)(Max)(nA): 0.01; Input Offset (+/-)(Max)(uV): 500; Noise at 1kHz(Typ)(nV/rt(Hz)): 100; Number of Channels: 1; Quiescent Current (+/-)(Typ)(mA): 0.04; SubFamily: Single Supply; Vs(Max)(V): 5.5; Vs(Min)(V): 2.5; DatasheetVersion: SBOS168D; PackageVersion: 4073329/E, 05/2006; PackageReference: DGK8; PackageDescription: 8-Pin Thin Small Outline, Body 3 x 3 mm, Pitch 0.65 mm; Supplier 1: Digi-Key; Supplier Part Number 1: INA321ETR-ND; Supplier 2: Digi-Key; Supplier Part Number 2: INA321ECT-ND; Supplier 3: Digi-Key; Supplier Part Number 3: INA321EDKR-ND; Supplier 4: Farnell; Supplier Part Number 4: 1295982; Supplier 5: Newark; Supplier Part Number 5: 74C9869; Supplier 6: Mouser; Supplier Part Number 6: 595-INA321E/250; Eco-Plan: Green (RoHS & no Sb/Br); Non-Linearity (+/-)(Max)(%): 0.01; Mounting Technology: Surface Mount; Code_JEDEC: MO-187; ComponentLink1Description: Manufacturer URL; ComponentLink1URL: http://www.ti.com/; ComponentLink2Description: Datasheet; ComponentLink2URL: http://www.ti.com/general/docs/lit/getliterature.tsp?genericPartNumber=INA321&fileType=pdf; ComponentLink3Description: Package Specification; ComponentLink3URL: http://www.ti.com/litv/pdf/mpds028d
footprint TI-DGK8_N (SOP, 8-Leads, Body 3.1x3.1mm, Pitch 0.65mm, IPC Medium Density)
footprint TI-DGK8_L (SOP, 8-Leads, Body 3.1x3.1mm, Pitch 0.65mm, IPC High Density)
footprint TI-DGK8_M (SOP, 8-Leads, Body 3.1x3.1mm, Pitch 0.65mm, IPC Low Density)
pins: 1 RG (in), 2 VIN- (in), 3 VIN+ (in), 4 V- (power), 5 REF (in), 6 VOUT (out), 7 V+ (power), 8 SHUTDOWN (in)

## INA321E/250G4
designator U?
Micropower Single-Supply CMOS Instrumentation Amplifier, -55 to 125 degC, 8-pin SOP (DGK8), Green (RoHS & no Sb/Br); Manufacturer: Texas Instruments; PartNumber: INA321E/250G4; Bandwidth at G: 100(Min)(kHz)=50; CMRR(Min)(dB): 90; Gain(V/V): 5 to 1000; Input Bias Current (+/-)(Max)(nA): 0.01; Input Offset (+/-)(Max)(uV): 500; Noise at 1kHz(Typ)(nV/rt(Hz)): 100; Number of Channels: 1; Quiescent Current (+/-)(Typ)(mA): 0.04; SubFamily: Single Supply; Vs(Max)(V): 5.5; Vs(Min)(V): 2.5; DatasheetVersion: SBOS168D; PackageVersion: 4073329/E, 05/2006; PackageReference: DGK8; PackageDescription: 8-Pin Thin Small Outline, Body 3 x 3 mm, Pitch 0.65 mm; Supplier 1: Digi-Key; Supplier Part Number 1: INA321E/250G4-ND; Supplier 2: Farnell; Supplier Part Number 2: 1206911; Supplier 3: Farnell; Supplier Part Number 3: 1206911RL; Supplier 4: Newark; Supplier Part Number 4: 97K1934; Supplier 5: Newark; Supplier Part Number 5: 52K5735; Supplier 6: Mouser; Supplier Part Number 6: 595-INA321E/250G4; Eco-Plan: Green (RoHS & no Sb/Br); Non-Linearity (+/-)(Max)(%): 0.01; Mounting Technology: Surface Mount; Code_JEDEC: MO-187; ComponentLink1Description: Manufacturer URL; ComponentLink1URL: http://www.ti.com/; ComponentLink2Description: Datasheet; ComponentLink2URL: http://www.ti.com/general/docs/lit/getliterature.tsp?genericPartNumber=INA321&fileType=pdf; ComponentLink3Description: Package Specification; ComponentLink3URL: http://www.ti.com/litv/pdf/mpds028d
footprint TI-DGK8_N (SOP, 8-Leads, Body 3.1x3.1mm, Pitch 0.65mm, IPC Medium Density)
footprint TI-DGK8_L (SOP, 8-Leads, Body 3.1x3.1mm, Pitch 0.65mm, IPC High Density)
footprint TI-DGK8_M (SOP, 8-Leads, Body 3.1x3.1mm, Pitch 0.65mm, IPC Low Density)
pins: 1 RG (in), 2 VIN- (in), 3 VIN+ (in), 4 V- (power), 5 REF (in), 6 VOUT (out), 7 V+ (power), 8 SHUTDOWN (in)

## INA321EA/2K5
designator U?
Micropower Single-Supply CMOS Instrumentation Amplifier, -55 to 125 degC, 8-pin SOP (DGK8), Green (RoHS & no Sb/Br); Manufacturer: Texas Instruments; PartNumber: INA321EA/2K5; Bandwidth at G: 100(Min)(kHz)=50; CMRR(Min)(dB): 80; Gain(V/V): 5 to 1000; Input Bias Current (+/-)(Max)(nA): 0.01; Input Offset (+/-)(Max)(uV): 1000; Noise at 1kHz(Typ)(nV/rt(Hz)): 100; Number of Channels: 1; Quiescent Current (+/-)(Typ)(mA): 0.04; SubFamily: Single Supply; Vs(Max)(V): 5.5; Vs(Min)(V): 2.5; DatasheetVersion: SBOS168D; PackageVersion: 4073329/E, 05/2006; PackageReference: DGK8; PackageDescription: 8-Pin Thin Small Outline, Body 3 x 3 mm, Pitch 0.65 mm; Supplier 1: Digi-Key; Supplier Part Number 1: 296-19951-2-ND; Supplier 2: Digi-Key; Supplier Part Number 2: 296-19951-1-ND; Supplier 3: Digi-Key; Supplier Part Number 3: 296-19951-6-ND; Supplier 4: Newark; Supplier Part Number 4: 74C9870; Supplier 5: Mouser; Supplier Part Number 5: 595-INA321EA/2K5; Eco-Plan: Green (RoHS & no Sb/Br); Non-Linearity (+/-)(Max)(%): 0.01; Mounting Technology: Surface Mount; Code_JEDEC: MO-187; ComponentLink1Description: Manufacturer URL; ComponentLink1URL: http://www.ti.com/; ComponentLink2Description: Datasheet; ComponentLink2URL: http://www.ti.com/general/docs/lit/getliterature.tsp?genericPartNumber=INA321&fileType=pdf; ComponentLink3Description: Package Specification; ComponentLink3URL: http://www.ti.com/litv/pdf/mpds028d
footprint TI-DGK8_N (SOP, 8-Leads, Body 3.1x3.1mm, Pitch 0.65mm, IPC Medium Density)
footprint TI-DGK8_L (SOP, 8-Leads, Body 3.1x3.1mm, Pitch 0.65mm, IPC High Density)
footprint TI-DGK8_M (SOP, 8-Leads, Body 3.1x3.1mm, Pitch 0.65mm, IPC Low Density)
pins: 1 RG (in), 2 VIN- (in), 3 VIN+ (in), 4 V- (power), 5 REF (in), 6 VOUT (out), 7 V+ (power), 8 SHUTDOWN (in)

## INA321EA/2K5G4
designator U?
Micropower Single-Supply CMOS Instrumentation Amplifier, -55 to 125 degC, 8-pin SOP (DGK8), Green (RoHS & no Sb/Br); Manufacturer: Texas Instruments; PartNumber: INA321EA/2K5G4; Bandwidth at G: 100(Min)(kHz)=50; CMRR(Min)(dB): 80; Gain(V/V): 5 to 1000; Input Bias Current (+/-)(Max)(nA): 0.01; Input Offset (+/-)(Max)(uV): 1000; Noise at 1kHz(Typ)(nV/rt(Hz)): 100; Number of Channels: 1; Quiescent Current (+/-)(Typ)(mA): 0.04; SubFamily: Single Supply; Vs(Max)(V): 5.5; Vs(Min)(V): 2.5; DatasheetVersion: SBOS168D; PackageVersion: 4073329/E, 05/2006; PackageReference: DGK8; PackageDescription: 8-Pin Thin Small Outline, Body 3 x 3 mm, Pitch 0.65 mm; Supplier 1: Digi-Key; Supplier Part Number 1: INA321EA/2K5G4-ND; Supplier 2: Newark; Supplier Part Number 2: 73K8182; Supplier 3: Mouser; Supplier Part Number 3: 595-INA321EA/2K5G4; Eco-Plan: Green (RoHS & no Sb/Br); Non-Linearity (+/-)(Max)(%): 0.01; Mounting Technology: Surface Mount; Code_JEDEC: MO-187; ComponentLink1Description: Manufacturer URL; ComponentLink1URL: http://www.ti.com/; ComponentLink2Description: Datasheet; ComponentLink2URL: http://www.ti.com/general/docs/lit/getliterature.tsp?genericPartNumber=INA321&fileType=pdf; ComponentLink3Description: Package Specification; ComponentLink3URL: http://www.ti.com/litv/pdf/mpds028d
footprint TI-DGK8_N (SOP, 8-Leads, Body 3.1x3.1mm, Pitch 0.65mm, IPC Medium Density)
footprint TI-DGK8_L (SOP, 8-Leads, Body 3.1x3.1mm, Pitch 0.65mm, IPC High Density)
footprint TI-DGK8_M (SOP, 8-Leads, Body 3.1x3.1mm, Pitch 0.65mm, IPC Low Density)
pins: 1 RG (in), 2 VIN- (in), 3 VIN+ (in), 4 V- (power), 5 REF (in), 6 VOUT (out), 7 V+ (power), 8 SHUTDOWN (in)

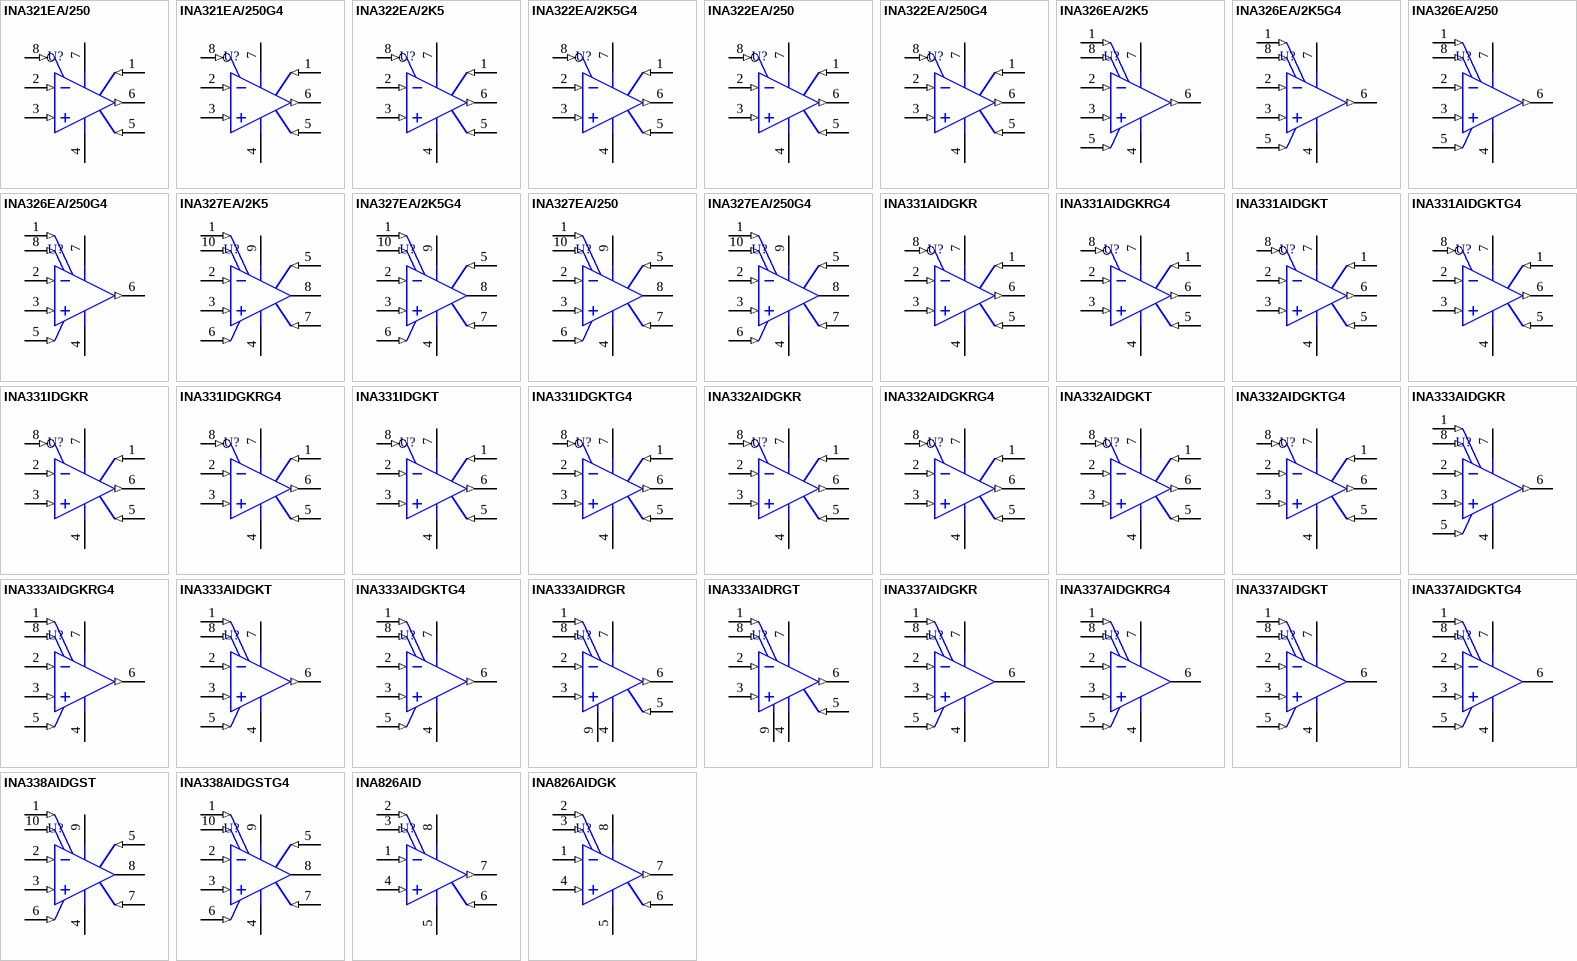
[diagram p6: symbols INA321EA/250 to INA826AIDGK]